# EAGLE library part 74257 (library mylib)
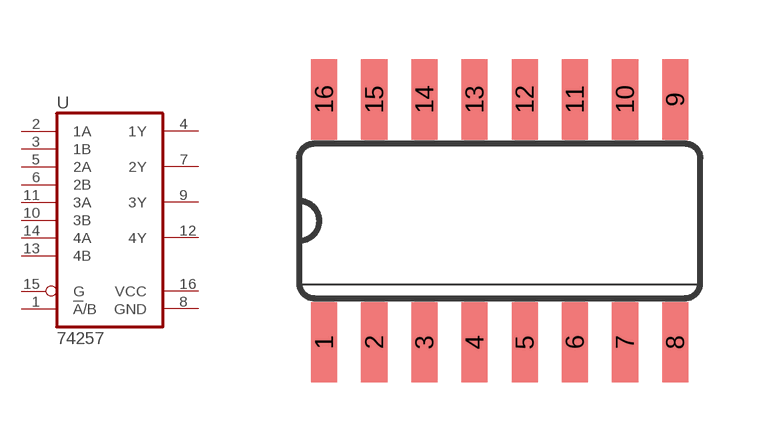
[diagram p3: symbol with the pads of 16; footprint 16]

Designator prefix -

## 74257  [16]
1  !A!/B  in
2  1A  in
3  1B  in
4  1Y  hiz
5  2A  in
6  2B  in
7  2Y  hiz
8  GND
9  3Y  hiz
10  3B  in
11  3A  in
12  4Y  hiz
13  4B  in
14  4A  in
15  G  in
16  VCC

## Footprint 16 (pad centres in mm)
smd 0.66 x 2.032: 1 -4.445,-3.073; 2 -3.175,-3.073; 3 -1.905,-3.073; 4 -0.635,-3.073; 5 0.635,-3.073; 6 1.905,-3.073; 7 3.175,-3.073; 8 4.445,-3.073; 9 4.445,3.073; 10 3.175,3.073; 11 1.905,3.073; 12 0.635,3.073; 13 -0.635,3.073; 14 -1.905,3.073; 15 -3.175,3.073; 16 -4.445,3.073